# Altium schematic symbol library PV36W104C01B00.SchLib: 1 symbol
Pins are listed as number, name and electrical type; pins without a type are passive.

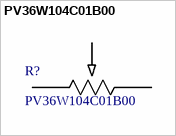
[diagram p0: symbol PV36W104C01B00]

## PV36W104C01B00
designator R?
Description; Manufacturer_Name: Bourns Electronics; Type: Trimmer Potentiometers; Copyright: Copyright (C) 2026 Ultra Librarian. All rights reserved.; Manufacturer_Part_Number: PV36W104C01B00
footprint POT_PV36W_BRN
pins: 1, 2, 3